# Altium schematic symbol library Schlib1.SchLib: 1 symbol
Pins are listed as number, name and electrical type; pins without a type are passive.

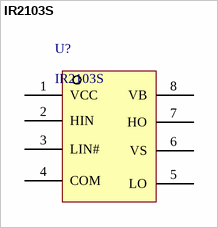
[diagram p0: symbol IR2103S]

## IR2103S
designator U?
栅极驱动，SOP-8
footprint SOIC-8
pins: 1 VCC, 2 HIN, 3 LIN#, 4 COM, 5 LO, 6 VS, 7 HO, 8 VB